# EAGLE library part SIM900 (library ArdDisp)
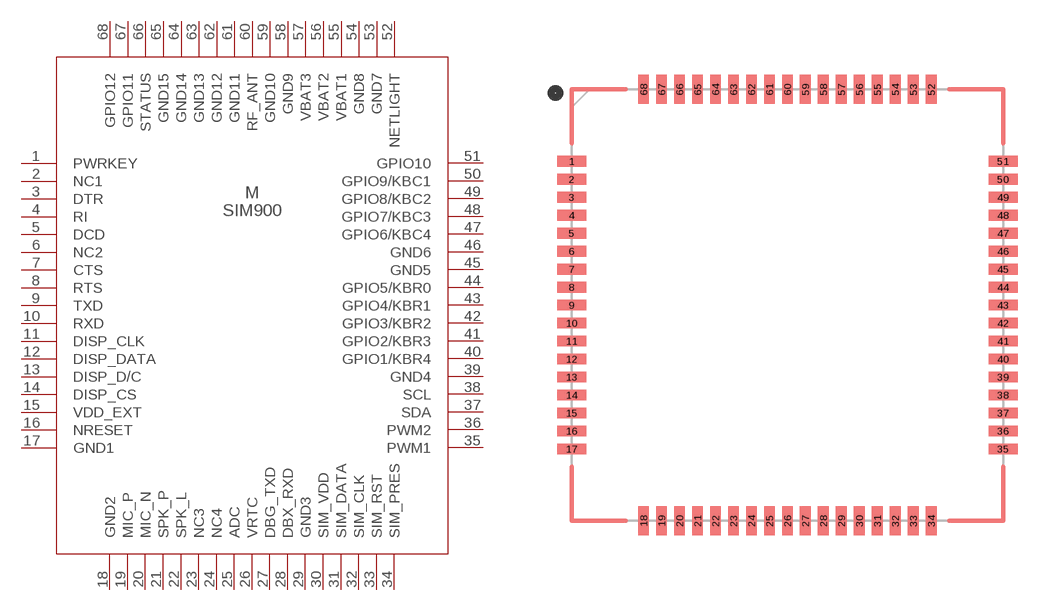
[diagram p23: symbol with the pads of SIM900; footprint SIM900]

Designator prefix M

## SIM900  [SIM900]
1  PWRKEY  pas
2  NC1  nc
3  DTR  pas
4  RI  out
5  DCD  out
6  NC2  nc
7  CTS  out
8  RTS  pas
9  TXD  out
10  RXD  in
11  DISP_CLK  pas
12  DISP_DATA
13  DISP_D/C  pas
14  DISP_CS  pas
15  VDD_EXT  in
16  NRESET  in
17  GND1  in
18  GND2  in
19  MIC_P  pas
20  MIC_N  pas
21  SPK_P  out
22  SPK_L  out
23  NC3  nc
24  NC4  nc
25  ADC  pas
26  VRTC  in
27  DBG_TXD  out
28  DBX_RXD  in
29  GND3  in
30  SIM_VDD  out
31  SIM_DATA
32  SIM_CLK  out
33  SIM_RST  out
34  SIM_PRES
35  PWM1  out
36  PWM2  out
37  SDA
38  SCL  out
39  GND4  in
40  GPIO1/KBR4
41  GPIO2/KBR3
42  GPIO3/KBR2
43  GPIO4/KBR1
44  GPIO5/KBR0
45  GND5  in
46  GND6  in
47  GPIO6/KBC4
48  GPIO7/KBC3
49  GPIO8/KBC2
50  GPIO9/KBC1
51  GPIO10
52  NETLIGHT  out
53  GND7  in
54  GND8  in
55  VBAT1  in
56  VBAT2  in
57  VBAT3  in
58  GND9  in
59  GND10  in
60  RF_ANT  in
61  GND11  in
62  GND12  in
63  GND13  in
64  GND14  in
65  GND15  in
66  STATUS  out
67  GPIO11
68  GPIO12

## Footprint SIM900 (pad centres in mm)
smd 1.6 x 0.6: 1 -12,8; 2 -12,7; 3 -12,6; 4 -12,5; 5 -12,4; 6 -12,3; 7 -12,2; 8 -12,1; 9 -12,0; 10 -12,-1; 11 -12,-2; 12 -12,-3; 13 -12,-4; 14 -12,-5; 15 -12,-6; 16 -12,-7; 17 -12,-8; 35 12,-8; 36 12,-7; 37 12,-6; 38 12,-5; 39 12,-4; 40 12,-3; 41 12,-2; 42 12,-1; 43 12,0; 44 12,1; 45 12,2; 46 12,3; 47 12,4; 48 12,5; 49 12,6; 50 12,7; 51 12,8
smd 0.6 x 1.6: 18 -8,-12; 19 -7,-12; 20 -6,-12; 21 -5,-12; 22 -4,-12; 23 -3,-12; 24 -2,-12; 25 -1,-12; 26 0,-12; 27 1,-12; 28 2,-12; 29 3,-12; 30 4,-12; 31 5,-12; 32 6,-12; 33 7,-12; 34 8,-12; 52 8,12; 53 7,12; 54 6,12; 55 5,12; 56 4,12; 57 3,12; 58 2,12; 59 1,12; 60 0,12; 61 -1,12; 62 -2,12; 63 -3,12; 64 -4,12; 65 -5,12; 66 -6,12; 67 -7,12; 68 -8,12